# Altium schematic symbol library 3.3K_Res_RC0402FR-073K3P.SchLib: 1 symbol
Pins are listed as number, name and electrical type; pins without a type are passive.

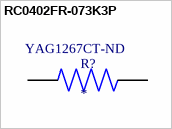
[diagram p0: symbol RC0402FR-073K3P]

## RC0402FR-073K3P
designator R?  Supplier Part Number 1: YAG1267CT-ND
Chip Resistor Surface Mount; MP: RC0402FR-073K3P; Package: None; Price: None; Value: *; Availability: Unavailable; Supplier 1: Digi-Key
footprint RESC1005X40N
pins: 1, 2